# Altium schematic symbol library QSX7TR.SchLib: 1 symbol
Pins are listed as number, name and electrical type; pins without a type are passive.

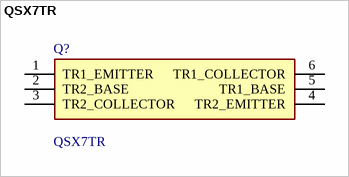
[diagram p0: symbol QSX7TR]

## QSX7TR
designator Q?
NPN+NPN, SOT-457T, Driver Transistor; Manufacturer_Name: ROHM Semiconductor; Geometry.Height: 1mm; Mouser Part Number: *; Mouser Price/Stock: *; Manufacturer_Part_Number: QSX7TR; Datasheet Link: https://fscdn.rohm.com/en/products/databook/datasheet/discrete/transistor/bipolar/qsx7tr-e.pdf
footprint SOT95P280X100-6N
pins: 1 TR1_EMITTER, 2 TR2_BASE, 3 TR2_COLLECTOR, 4 TR2_EMITTER, 5 TR1_BASE, 6 TR1_COLLECTOR